# Altium schematic symbol library Toshiba.SchLib: 7 symbols
Pins are listed as number, name and electrical type; pins without a type are passive.

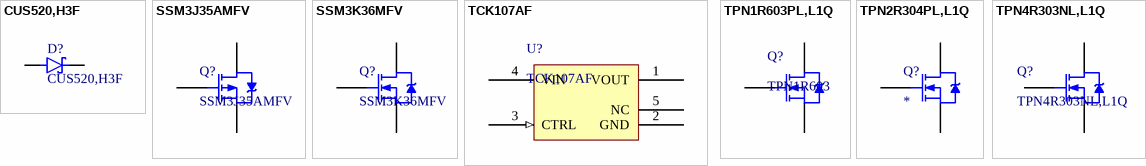
[diagram p0: symbols CUS520,H3F to TPN4R303NL,L1Q]

## CUS520,H3F
designator D?
pins: A, C

## SSM3J35AMFV
designator Q?
pins: 1 G, 2 S, 3 D

## SSM3K36MFV
designator Q?
pins: 1 G, 2 S, 3 D

## TCK107AF
designator U?
pins: 1 VOUT (power), 2 GND (power), 3 CTRL (in), 4 VIN (power), 5 NC

## TPN1R603PL,L1Q
designator Q?, comment TPN1R603
pins: 1 G, 2 D, 3 S

## TPN2R304PL,L1Q
designator Q?
pins: 1 G, 2 D, 3 S

## TPN4R303NL,L1Q
designator Q?
pins: 1 G, 2 D, 3 S